# Altium footprint library PcbLib1.PcbLib: 4 footprints
Each footprint in its own frame and in the unit in brackets; x right, y up, seen from the top. Pads: shape width x height; smd on the part's side, far side on the other; paste and mask are expansions set on the pad; w line width, h text height; cw(c..) or ccw(c..) is an arc to the next point about the centre after c.
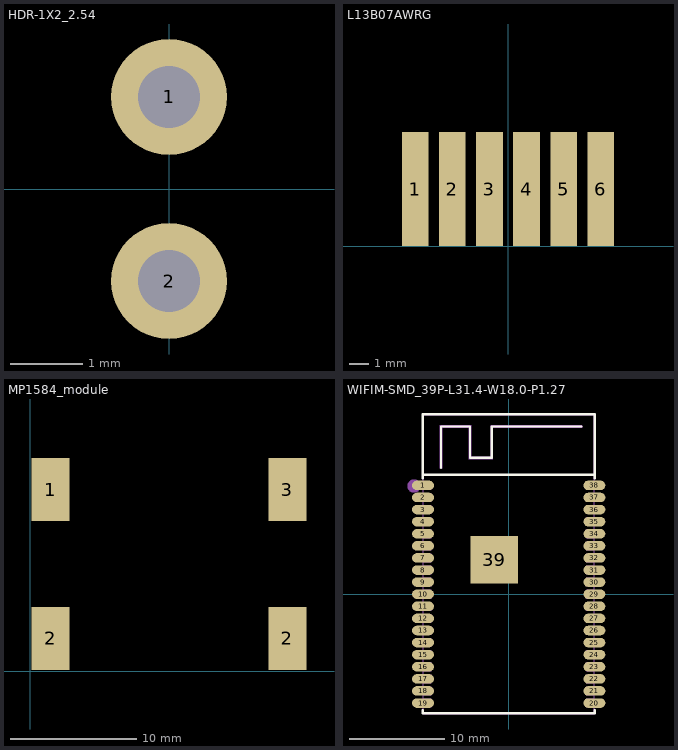
[diagram p0: the footprints below, top view; thin cyan lines are the x and y axes]

## HDR-1X2_2.54 [mm]
height 1.1
pads (2):
  round 1.6 hole 0.85: 1(0,1.27) 2(0,-1.27)

## L13B07AWRG [mm]
pads (6):
  rect 1.4x6 smd: 1(-4.875,3) 2(-2.925,3) 3(-0.975,3) 4(0.975,3) 5(2.925,3) 6(4.875,3)
3D body: height 4.5, standoff 0, extent -6.55,3.85 6.55,10.95

## MP1584_module [mm]
pads (4):
  rect 3x5 smd: 1(1.602,14.398) 2(1.602,2.602) 2(20.398,2.602) 3(20.398,14.398)
3D body: height 0.25, standoff 0, extent 0,0 22,17

## WIFIM-SMD_39P-L31.4-W18.0-P1.27 [mm]
pads (39):
  oval 2.3x1 smd paste+0 mask+0.051: 1(-9,11.43) 2(-9,10.16) 3(-9,8.89) 4(-9,7.62) 5(-9,6.35) 6(-9,5.08) 7(-9,3.81) 8(-9,2.54) 9(-9,1.27) 10(-9,0) 11(-9,-1.27) 12(-9,-2.54) 13(-9,-3.81) 14(-9,-5.08) 15(-9,-6.35) 16(-9,-7.62) 17(-9,-8.89) 18(-9,-10.16) 19(-9,-11.43) 20(9,-11.43) 21(9,-10.16) 22(9,-8.89) 23(9,-7.62) 24(9,-6.35) 25(9,-5.08) 26(9,-3.81) 27(9,-2.54) 28(9,-1.27) 29(9,0) 30(9,1.27) 31(9,2.54) 32(9,3.81) 33(9,5.08) 34(9,6.35) 35(9,7.62) 36(9,8.89) 37(9,10.16) 38(9,11.43)
  rect 5x5 smd paste+0 mask+0.051: 39(-1.5,3.62)
Top Overlay:
  lines w0.254: -9.017,-12.161 -9.017,-12.48 9.017,-12.48 9.017,-12.161 ; -9.017,12.158 -9.017,12.516 ; -9.017,12.161 -9.017,12.317 ; -7.112,13.301 -7.112,17.619 -4.064,17.619 -4.064,14.317 -1.778,14.317 -1.778,17.619 7.62,17.619 ; 9.017,12.158 9.017,12.539 -9.017,12.539 -9.017,18.889 9.017,18.889 9.017,12.161
Mechanical 6:
  circle w0.7: c-9.946,11.358 r0.35
  region: -6.99,13.24 -6.99,17.48 -6.98,17.49 -4.19,17.49 -4.19,14.18 -1.66,14.18 -1.65,14.17 -1.65,17.49 7.69,17.49 7.7,17.48 7.7,17.72 7.68,17.74 -1.89,17.74 -1.89,14.44 -3.93,14.44 -3.93,17.74 -3.94,17.75 -7.24,17.75 -7.24,13.24
Mechanical 15:
  drawing of 44 lines, arcs and shapes, not listed